# EAGLE library part LTC4151-2 (library ltc4151_uprava)
LTC4151-2 - High Voltage I2C Current and Voltage Monitor
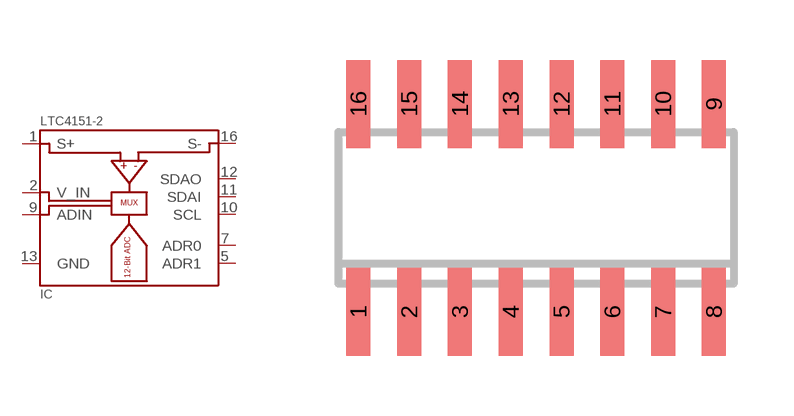
[diagram p2: symbol with the pads of SO16; footprint SO16]

Designator prefix IC

## LTC4151-2  [SO16]
1  S+
2  V_IN
5  ADR1
7  ADR0
9  ADIN
10  SCL
11  SDAI
12  SDAO
13  GND
16  S-

## Footprint SO16 (pad centres in mm)
SMALL OUTLINE INTEGRATED CIRCUIT body 3.9 mm/JEDEC MS-012AC
smd 0.6 x 2.2: 1 -4.445,-2.6; 2 -3.175,-2.6; 3 -1.905,-2.6; 4 -0.635,-2.6; 5 0.635,-2.6; 6 1.905,-2.6; 7 3.175,-2.6; 8 4.445,-2.6; 9 4.445,2.6; 10 3.175,2.6; 11 1.905,2.6; 12 0.635,2.6; 13 -0.635,2.6; 14 -1.905,2.6; 15 -3.175,2.6; 16 -4.445,2.6